# Altium schematic symbol library RCS-0C.SchLib: 1 symbol
Pins are listed as number, name and electrical type; pins without a type are passive.

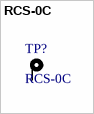
[diagram p0: symbol RCS-0C]

## RCS-0C
designator TP?
PC TEST POINT NATURAL
footprint RCS-0C
pins: 1, 1